# Altium footprint library XTAL_MS1V-T1K-32.768KHZ-9PF-20PPM-TA-QC-AU.PcbLib: 1 footprints
Each footprint in its own frame and in the unit in brackets; x right, y up, seen from the top. Pads: shape width x height; smd on the part's side, far side on the other; paste and mask are expansions set on the pad; w line width, h text height; cw(c..) or ccw(c..) is an arc to the next point about the centre after c.
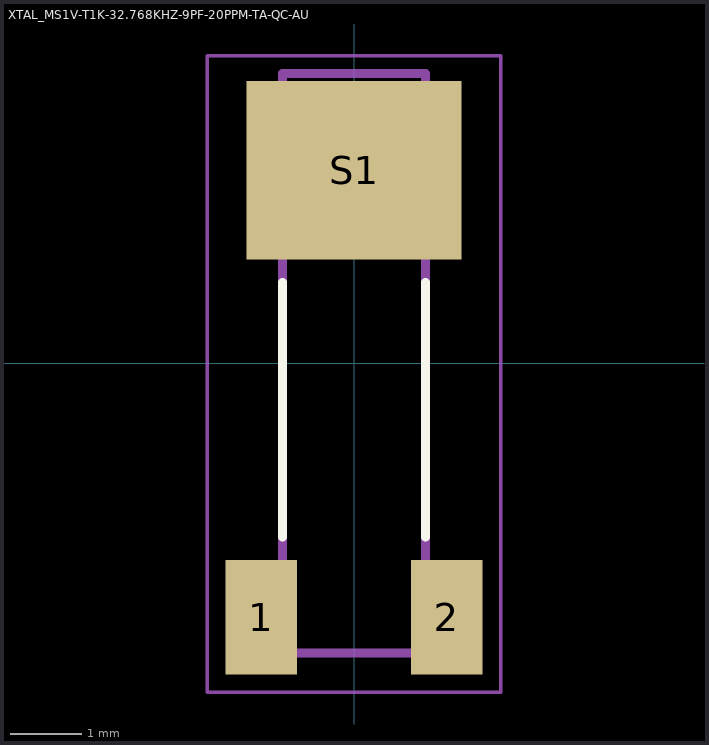
[diagram p0: the footprint, top view; thin cyan lines are the x and y axes]

## XTAL_MS1V-T1K-32.768KHZ-9PF-20PPM-TA-QC-AU [mm]
pads (3):
  rect 1x1.6 smd: 1(-1.3,-3.55) 2(1.3,-3.55)
  rect 3x2.5 smd: S1(0,2.7)
Top Overlay:
  lines w0.127: -1,-2.43 -1,1.13 ; 1,-2.43 1,1.13
Mechanical 13:
  lines w0.127: -1,-4.05 -1,4.05 1,4.05 1,-4.05 -1,-4.05
Mechanical 15:
  lines w0.05: -2.05,-4.6 2.05,-4.6 2.05,4.3 -2.05,4.3 -2.05,-4.6
3D body "step_temp.STEP": height 2.08, standoff 0, extent -1.38,-4.05 1.38,4.05